# Altium footprint library 排针-排母.PcbLib: 177 footprints (part 7 of 12)
Each footprint in its own frame and in the unit in brackets; x right, y up, seen from the top. Pads: shape width x height; smd on the part's side, far side on the other; paste and mask are expansions set on the pad; w line width, h text height; cw(c..) or ccw(c..) is an arc to the next point about the centre after c.
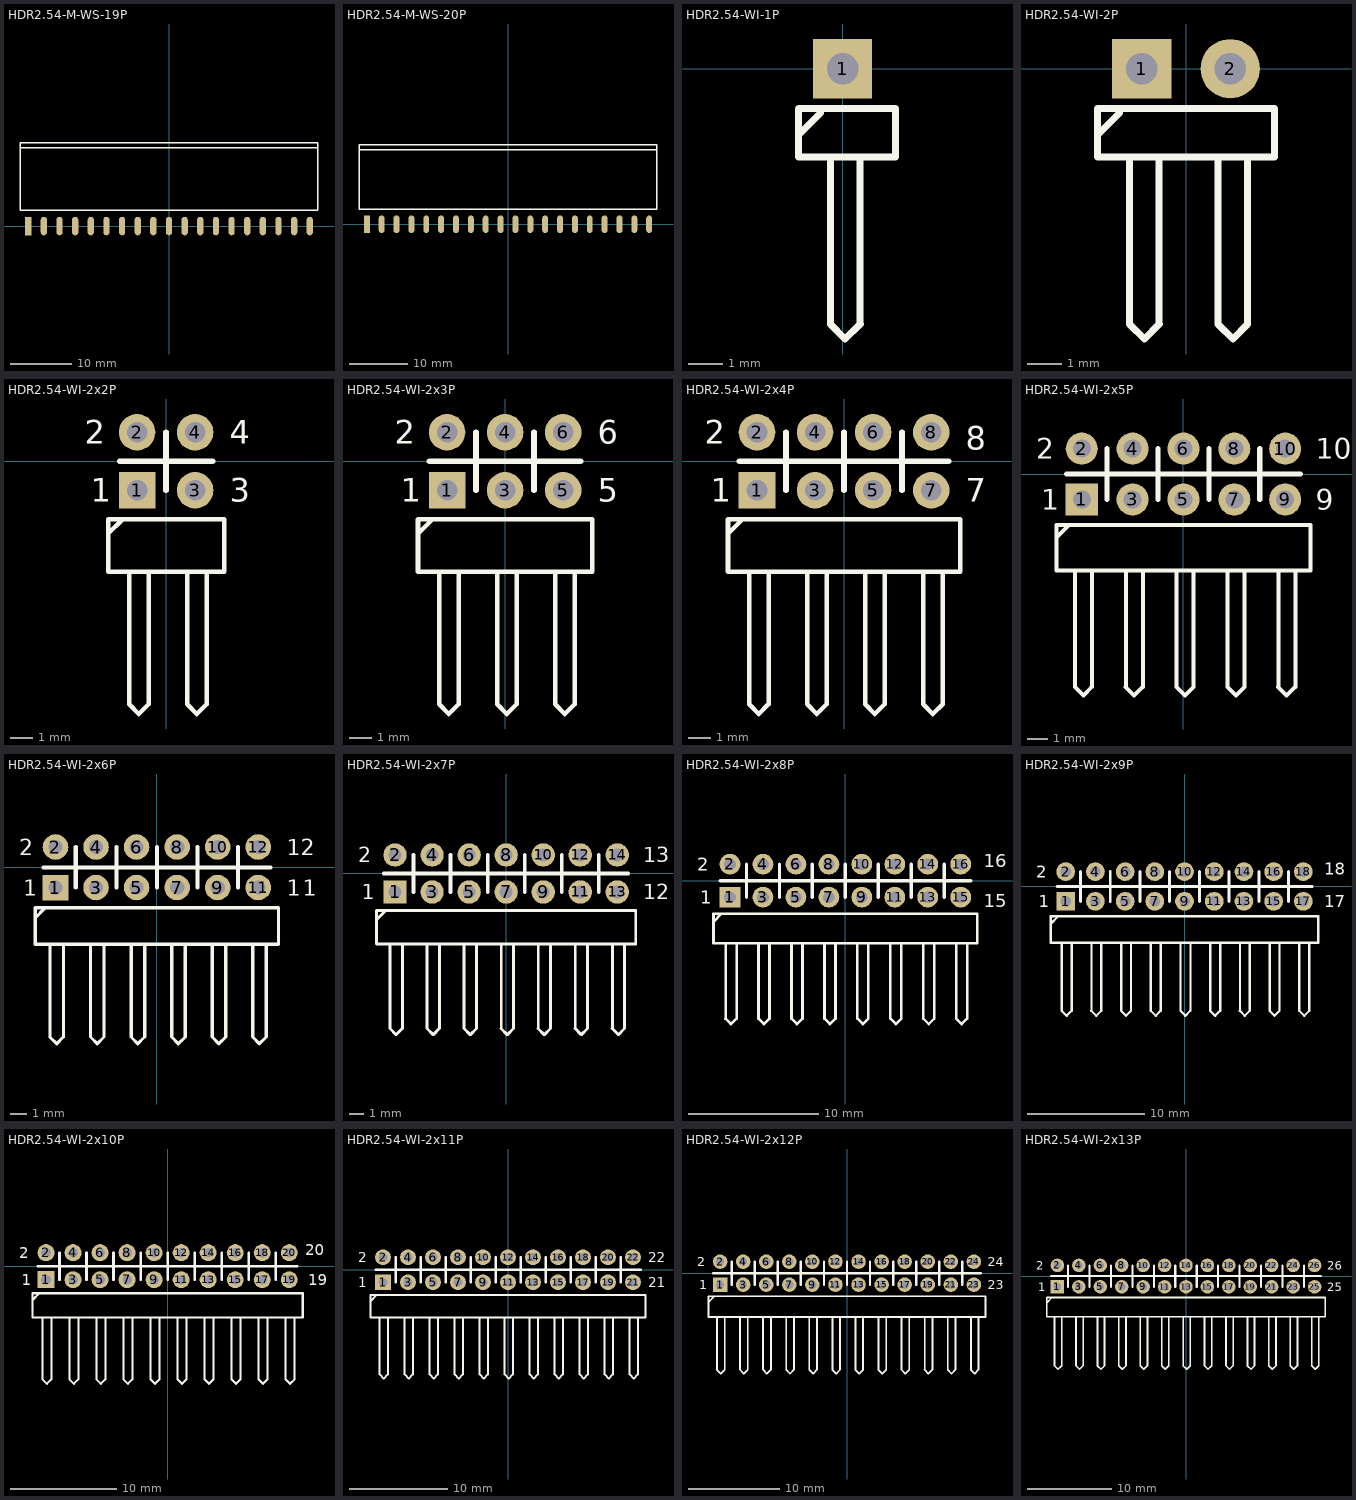
[diagram p6: the footprints below, top view; thin cyan lines are the x and y axes]

## HDR2.54-M-WS-19P [mm] "19P卧式贴片排母2.54"
pads (19):
  rect 1.02x3 smd: 1(-22.86,0)
  oval 1.02x3 smd: 2(-20.32,0) 3(-17.78,0) 4(-15.24,0) 5(-12.7,0) 6(-10.16,0) 7(-7.62,0) 8(-5.08,0) 9(-2.54,0) 10(0,0) 11(2.54,0) 12(5.08,0) 13(7.62,0) 14(10.16,0) 15(12.7,0) 16(15.24,0) 17(17.78,0) 18(20.32,0) 19(22.86,0)
Top Overlay:
  lines w0.254: -24.13,12.7 -21.59,12.7 -19.05,12.7 -16.51,12.7 -13.97,12.7 -11.43,12.7 -8.89,12.7 -6.35,12.7 -3.81,12.7 -1.27,12.7 1.27,12.7 3.81,12.7 6.35,12.7 8.89,12.7 11.43,12.7 13.97,12.7 16.51,12.7 19.05,12.7 21.59,12.7 24.13,12.7 ; -24.13,2.54 -24.13,13.54 -21.59,13.54 -19.05,13.54 -16.51,13.54 -13.97,13.54 -11.43,13.54 -8.89,13.54 -6.35,13.54 -3.81,13.54 -1.27,13.54 1.27,13.54 3.81,13.54 6.35,13.54 8.89,13.54 11.43,13.54 13.97,13.54 16.51,13.54 19.05,13.54 21.59,13.54 24.13,13.54 24.13,2.54 21.59,2.54 19.05,2.54 16.51,2.54 13.97,2.54 11.43,2.54 8.89,2.54 6.35,2.54 3.81,2.54 1.27,2.54 -1.27,2.54 -3.81,2.54 -6.35,2.54 -8.89,2.54 -11.43,2.54 -13.97,2.54 -16.51,2.54 -19.05,2.54 -21.59,2.54 -24.13,2.54
3D body: height 2.54, standoff -0.01, extent -8.89,-0.43 -6.35,13.54
3D body: height 2.54, standoff -0.01, extent -11.43,-0.43 -8.89,13.54
3D body: height 2.54, standoff -0.01, extent -13.97,-0.43 -11.43,13.54
3D body: height 2.54, standoff -0.01, extent -16.51,-0.43 -13.97,13.54
3D body: height 2.54, standoff -0.01, extent -19.05,-0.43 -16.51,13.54
3D body: height 2.54, standoff -0.01, extent -21.59,-0.43 -19.05,13.54
3D body: height 2.54, standoff -0.01, extent -24.13,-0.43 -21.59,13.54
3D body: height 2.54, standoff -0.01, extent -6.35,-0.43 -3.81,13.54
3D body: height 2.54, standoff -0.01, extent -3.81,-0.43 -1.27,13.54
3D body: height 2.54, standoff -0.01, extent -1.27,-0.43 1.27,13.54
3D body: height 2.54, standoff -0.01, extent 1.27,-0.43 3.81,13.54
3D body: height 2.54, standoff -0.01, extent 3.81,-0.43 6.35,13.54
3D body: height 2.54, standoff -0.01, extent 6.35,-0.43 8.89,13.54
3D body: height 2.54, standoff -0.01, extent 8.89,-0.43 11.43,13.54
3D body: height 2.54, standoff -0.01, extent 11.43,-0.43 13.97,13.54
3D body: height 2.54, standoff -0.01, extent 13.97,-0.43 16.51,13.54
3D body: height 2.54, standoff -0.01, extent 16.51,-0.43 19.05,13.54
3D body: height 2.54, standoff -0.01, extent 19.05,-0.43 21.59,13.54
3D body: height 2.54, standoff -0.01, extent 21.59,-0.43 24.13,13.54

## HDR2.54-M-WS-20P [mm] "20P卧式贴片排母2.54"
pads (20):
  rect 1.02x3 smd: 1(-24.13,0)
  oval 1.02x3 smd: 2(-21.59,0) 3(-19.05,0) 4(-16.51,0) 5(-13.97,0) 6(-11.43,0) 7(-8.89,0) 8(-6.35,0) 9(-3.81,0) 10(-1.27,0) 11(1.27,0) 12(3.81,0) 13(6.35,0) 14(8.89,0) 15(11.43,0) 16(13.97,0) 17(16.51,0) 18(19.05,0) 19(21.59,0) 20(24.13,0)
Top Overlay:
  lines w0.254: -25.4,12.7 -22.86,12.7 -20.32,12.7 -17.78,12.7 -15.24,12.7 -12.7,12.7 -10.16,12.7 -7.62,12.7 -5.08,12.7 -2.54,12.7 0,12.7 2.54,12.7 5.08,12.7 7.62,12.7 10.16,12.7 12.7,12.7 15.24,12.7 17.78,12.7 20.32,12.7 22.86,12.7 25.4,12.7 ; -25.4,2.54 -25.4,13.54 -22.86,13.54 -20.32,13.54 -17.78,13.54 -15.24,13.54 -12.7,13.54 -10.16,13.54 -7.62,13.54 -5.08,13.54 -2.54,13.54 0,13.54 2.54,13.54 5.08,13.54 7.62,13.54 10.16,13.54 12.7,13.54 15.24,13.54 17.78,13.54 20.32,13.54 22.86,13.54 25.4,13.54 25.4,2.54 22.86,2.54 20.32,2.54 17.78,2.54 15.24,2.54 12.7,2.54 10.16,2.54 7.62,2.54 5.08,2.54 2.54,2.54 0,2.54 -2.54,2.54 -5.08,2.54 -7.62,2.54 -10.16,2.54 -12.7,2.54 -15.24,2.54 -17.78,2.54 -20.32,2.54 -22.86,2.54 -25.4,2.54
3D body: height 2.54, standoff -0.01, extent 22.86,-0.43 25.4,13.54
3D body: height 2.54, standoff -0.01, extent -10.16,-0.43 -7.62,13.54
3D body: height 2.54, standoff -0.01, extent -12.7,-0.43 -10.16,13.54
3D body: height 2.54, standoff -0.01, extent -15.24,-0.43 -12.7,13.54
3D body: height 2.54, standoff -0.01, extent -17.78,-0.43 -15.24,13.54
3D body: height 2.54, standoff -0.01, extent -20.32,-0.43 -17.78,13.54
3D body: height 2.54, standoff -0.01, extent -22.86,-0.43 -20.32,13.54
3D body: height 2.54, standoff -0.01, extent -25.4,-0.43 -22.86,13.54
3D body: height 2.54, standoff -0.01, extent -7.62,-0.43 -5.08,13.54
3D body: height 2.54, standoff -0.01, extent -5.08,-0.43 -2.54,13.54
3D body: height 2.54, standoff -0.01, extent -2.54,-0.43 0,13.54
3D body: height 2.54, standoff -0.01, extent 0,-0.43 2.54,13.54
3D body: height 2.54, standoff -0.01, extent 2.54,-0.43 5.08,13.54
3D body: height 2.54, standoff -0.01, extent 5.08,-0.43 7.62,13.54
3D body: height 2.54, standoff -0.01, extent 7.62,-0.43 10.16,13.54
3D body: height 2.54, standoff -0.01, extent 10.16,-0.43 12.7,13.54
3D body: height 2.54, standoff -0.01, extent 12.7,-0.43 15.24,13.54
3D body: height 2.54, standoff -0.01, extent 15.24,-0.43 17.78,13.54
3D body: height 2.54, standoff -0.01, extent 17.78,-0.43 20.32,13.54
3D body: height 2.54, standoff -0.01, extent 20.32,-0.43 22.86,13.54

## HDR2.54-WI-1P [mm] "弯脚排针，1脚"
pads (1):
  rect 1.7x1.7 hole 0.9: 1(0,0)
Top Overlay:
  lines w0.2: -1.27,-1.905 -0.635,-1.27 ; -0.348,-2.54 -0.348,-7.332 0.075,-7.755 0.499,-7.332 0.508,-7.323 ; 0.499,-7.323 0.499,-2.54 ; -1.27,-2.54 -1.27,-1.143 0.508,-1.143 1.524,-1.143 1.524,-2.54 -1.27,-2.54
3D body: height 4.85, standoff -3, extent -1.27,-7.77 1.27,1.27

## HDR2.54-WI-2P [mm] "弯脚排针，2脚"
pads (2):
  rect 1.7x1.7 hole 0.9: 1(-1.27,0)
  round 1.7 hole 0.9: 2(1.27,0)
Top Overlay:
  lines w0.2: -2.54,-1.905 -1.905,-1.27 ; -1.618,-2.54 -1.618,-7.332 -1.195,-7.755 -0.771,-7.332 -0.762,-7.323 ; -0.771,-7.323 -0.771,-2.54 ; 0.922,-2.54 0.922,-7.332 1.345,-7.755 1.769,-7.332 ; 1.769,-7.323 1.769,-2.54 ; -2.54,-2.54 -2.54,-1.143 -0.762,-1.143 2.54,-1.143 2.54,-2.54 -2.54,-2.54
3D body: height 4.85, standoff -3, extent 0,-7.77 2.54,1.27
3D body: height 4.85, standoff -3, extent -2.54,-7.77 0,1.27

## HDR2.54-WI-2x2P [mm] "双排弯脚排针，2x2脚"
pads (4):
  rect 1.6x1.6 hole 0.9: 1(-1.27,-1.27)
  round 1.6 hole 0.9: 2(-1.27,1.27) 3(1.27,-1.27) 4(1.27,1.27)
Top Overlay:
  lines w0.2: -2.54,-3.175 -1.905,-2.54 ; -1.618,-10.634 -1.195,-11.057 -0.771,-10.634 -0.762,-10.625 -0.762,-4.826 ; -1.609,-10.634 -1.609,-4.826 ; 0.922,-10.634 1.345,-11.057 1.769,-10.634 ; 0.931,-10.634 0.931,-4.826 ; 1.778,-10.634 1.778,-4.826 ; -2.54,-4.826 2.54,-4.826 2.54,-2.54 -2.54,-2.54 -2.54,-4.826
  lines w0.254: -2.032,0 2.032,0 ; 0,-1.27 0,1.27
  text "1" at -3.302,-1.778 h1.02
  text "2" at -3.556,0.762 h1.02
  text "4" at 2.794,0.762 h1.02
  text "3" at 2.794,-1.778 h1.02
Bottom Overlay:
  lines w0.254: -2.032,0 2.032,0 ; 0,-1.27 0,1.27
3D body: height 5.1, standoff -3, extent 0,-11.23 2.54,1.62
3D body: height 5.1, standoff -3, extent -2.54,-11.23 0,1.62

## HDR2.54-WI-2x3P [mm] "双排弯脚排针，3x2脚"
pads (6):
  rect 1.6x1.6 hole 0.9: 1(-2.54,-1.27)
  round 1.6 hole 0.9: 2(-2.54,1.27) 3(0,-1.27) 4(0,1.27) 5(2.54,-1.27) 6(2.54,1.27)
Top Overlay:
  lines w0.2: -3.81,-3.175 -3.175,-2.54 ; -2.888,-10.634 -2.465,-11.057 -2.041,-10.634 -2.032,-10.625 -2.032,-4.826 ; -2.879,-10.634 -2.879,-4.826 ; -0.348,-10.634 0.075,-11.057 0.499,-10.634 ; -0.339,-10.634 -0.339,-4.826 ; 0.508,-10.634 0.508,-4.826 ; 2.192,-10.634 2.615,-11.057 3.039,-10.634 ; 2.201,-10.634 2.201,-4.826 ; 3.048,-10.634 3.048,-4.826 ; -3.81,-4.826 -3.81,-2.54 3.81,-2.54 3.81,-4.826 -3.81,-4.826
  lines w0.254: -3.302,0 3.302,0 ; -1.27,-1.27 -1.27,1.27 ; 1.27,-1.27 1.27,1.27
  text "1" at -4.572,-1.778 h1.02
  text "2" at -4.826,0.762 h1.02
  text "5" at 4.064,-1.778 h1.02
  text "6" at 4.064,0.762 h1.02
Bottom Overlay:
  lines w0.254: -3.302,0 3.302,0 ; -1.27,-1.27 -1.27,1.27 ; 1.27,-1.27 1.27,1.27
3D body: height 5.1, standoff -3, extent 1.27,-11.23 3.81,1.62
3D body: height 5.1, standoff -3, extent -3.81,-11.23 -1.27,1.62
3D body: height 5.1, standoff -3, extent -1.27,-11.23 1.27,1.62

## HDR2.54-WI-2x4P [mm] "双排弯脚排针，4x2脚"
pads (8):
  rect 1.6x1.6 hole 0.9: 1(-3.81,-1.27)
  round 1.6 hole 0.9: 2(-3.81,1.27) 3(-1.27,-1.27) 4(-1.27,1.27) 5(1.27,-1.27) 6(1.27,1.27) 7(3.81,-1.27) 8(3.81,1.27)
Top Overlay:
  lines w0.2: -5.08,-3.175 -4.445,-2.54 ; -4.158,-10.634 -3.735,-11.057 -3.311,-10.634 -3.302,-10.625 -3.302,-4.826 ; -4.149,-10.634 -4.149,-4.826 ; -1.618,-10.634 -1.195,-11.057 -0.771,-10.634 ; -1.609,-10.634 -1.609,-4.826 ; -0.762,-10.634 -0.762,-4.826 ; 0.922,-10.634 1.345,-11.057 1.769,-10.634 ; 0.931,-10.634 0.931,-4.826 ; 1.778,-10.634 1.778,-4.826 ; 3.462,-10.634 3.885,-11.057 4.309,-10.634 ; 3.471,-10.634 3.471,-4.826 ; 4.318,-10.634 4.318,-4.826 ; -5.08,-4.826 5.08,-4.826 5.08,-2.54 -5.08,-2.54 -5.08,-4.826
  lines w0.254: -4.572,0 4.572,0 ; -2.54,-1.27 -2.54,1.27 ; 0,-1.27 0,1.27 ; 2.54,-1.27 2.54,1.27
  text "7" at 5.334,-1.778 h1.02
  text "2" at -6.096,0.762 h1.02
  text "1" at -5.842,-1.778 h1.02
  text "8" at 5.334,0.508 h1.02
Bottom Overlay:
  lines w0.254: -4.572,0 4.572,0 ; -2.54,-1.27 -2.54,1.27 ; 0,-1.27 0,1.27 ; 2.54,-1.27 2.54,1.27
3D body: height 5.1, standoff -3, extent 0,-11.23 2.54,1.62
3D body: height 5.1, standoff -3, extent 2.54,-11.23 5.08,1.62
3D body: height 5.1, standoff -3, extent -5.08,-11.23 -2.54,1.62
3D body: height 5.1, standoff -3, extent -2.54,-11.23 0,1.62

## HDR2.54-WI-2x5P [mm] "双排弯脚排针，5x2脚"
pads (10):
  rect 1.6x1.6 hole 0.9: 1(-5.08,-1.27)
  round 1.6 hole 0.9: 2(-5.08,1.27) 3(-2.54,-1.27) 4(-2.54,1.27) 5(0,-1.27) 6(0,1.27) 7(2.54,-1.27) 8(2.54,1.27) 9(5.08,-1.27) 10(5.08,1.27)
Top Overlay:
  lines w0.2: -6.35,-3.175 -5.715,-2.54 ; -5.428,-10.634 -5.005,-11.057 -4.581,-10.634 -4.572,-10.625 -4.572,-4.826 ; -5.419,-10.634 -5.419,-4.826 ; -2.888,-10.634 -2.465,-11.057 -2.041,-10.634 ; -2.879,-10.634 -2.879,-4.826 ; -2.032,-10.634 -2.032,-4.826 ; -0.348,-10.634 0.075,-11.057 0.499,-10.634 ; -0.339,-10.634 -0.339,-4.826 ; 0.508,-10.634 0.508,-4.826 ; 2.192,-10.634 2.615,-11.057 3.039,-10.634 ; 2.201,-10.634 2.201,-4.826 ; 3.048,-10.634 3.048,-4.826 ; 4.732,-10.634 5.155,-11.057 5.579,-10.634 ; 4.741,-10.634 4.741,-4.826 ; 5.588,-10.634 5.588,-4.826 ; -6.35,-4.826 -6.35,-2.54 6.35,-2.54 6.35,-4.826 -6.35,-4.826
  lines w0.254: -5.842,0 5.842,0 ; -3.81,-1.27 -3.81,1.27 ; -1.27,-1.27 -1.27,1.27 ; 1.27,-1.27 1.27,1.27 ; 3.81,-1.27 3.81,1.27
  text "10" at 6.604,0.762 h1.02
  text "9" at 6.604,-1.778 h1.02
  text "1" at -7.112,-1.778 h1.02
  text "2" at -7.366,0.762 h1.02
Bottom Overlay:
  lines w0.254: -5.842,0 5.842,0 ; -3.81,-1.27 -3.81,1.27 ; -1.27,-1.27 -1.27,1.27 ; 1.27,-1.27 1.27,1.27 ; 3.81,-1.27 3.81,1.27
3D body: height 5.1, standoff -3, extent -3.81,-11.23 -1.27,1.62
3D body: height 5.1, standoff -3, extent -6.35,-11.23 -3.81,1.62
3D body: height 5.1, standoff -3, extent 1.27,-11.23 3.81,1.62
3D body: height 5.1, standoff -3, extent -1.27,-11.23 1.27,1.62
3D body: height 5.1, standoff -3, extent 3.81,-11.23 6.35,1.62

## HDR2.54-WI-2x6P [mm] "双排弯脚排针，6x2脚"
pads (12):
  rect 1.6x1.6 hole 0.9: 1(-6.35,-1.27)
  round 1.6 hole 0.9: 2(-6.35,1.27) 3(-3.81,-1.27) 4(-3.81,1.27) 5(-1.27,-1.27) 6(-1.27,1.27) 7(1.27,-1.27) 8(1.27,1.27) 9(3.81,-1.27) 10(3.81,1.27) 11(6.35,-1.27) 12(6.35,1.27)
Top Overlay:
  lines w0.2: -7.62,-3.175 -6.985,-2.54 ; -6.698,-10.634 -6.275,-11.057 -5.851,-10.634 -5.842,-10.625 -5.842,-4.826 ; -6.689,-10.634 -6.689,-4.826 ; -4.158,-10.634 -3.735,-11.057 -3.311,-10.634 ; -4.149,-10.634 -4.149,-4.826 ; -3.302,-10.634 -3.302,-4.826 ; -1.618,-10.634 -1.195,-11.057 -0.771,-10.634 ; -1.609,-10.634 -1.609,-4.826 ; -0.762,-10.634 -0.762,-4.826 ; 0.922,-10.634 1.345,-11.057 1.769,-10.634 ; 0.931,-10.634 0.931,-4.826 ; 1.778,-10.634 1.778,-4.826 ; 3.462,-10.634 3.885,-11.057 4.309,-10.634 ; 3.471,-10.634 3.471,-4.826 ; 4.318,-10.634 4.318,-4.826 ; 6.002,-10.634 6.425,-11.057 6.849,-10.634 ; 6.011,-10.634 6.011,-4.826 ; 6.858,-10.634 6.858,-4.826 ; -7.62,-4.826 7.62,-4.826 7.62,-2.54 -7.62,-2.54 -7.62,-4.826
  lines w0.254: -7.112,0 7.112,0 ; -5.08,-1.27 -5.08,1.27 ; -2.54,-1.27 -2.54,1.27 ; 0,-1.27 0,1.27 ; 2.54,-1.27 2.54,1.27 ; 5.08,-1.27 5.08,1.27
  text "12" at 8.128,0.762 h1.02
  text "1" at 9.144,-1.778 h1.02
  text "1" at 8.128,-1.778 h1.02
  text "1" at -8.382,-1.778 h1.02
  text "2" at -8.636,0.762 h1.02
Bottom Overlay:
  lines w0.254: -7.112,0 7.112,0 ; -5.08,-1.27 -5.08,1.27 ; -2.54,-1.27 -2.54,1.27 ; 0,-1.27 0,1.27 ; 2.54,-1.27 2.54,1.27 ; 5.08,-1.27 5.08,1.27
3D body: height 5.1, standoff -3, extent 2.54,-11.23 5.08,1.62
3D body: height 5.1, standoff -3, extent -2.54,-11.23 0,1.62
3D body: height 5.1, standoff -3, extent 0,-11.23 2.54,1.62
3D body: height 5.1, standoff -3, extent -7.62,-11.23 -5.08,1.62
3D body: height 5.1, standoff -3, extent -5.08,-11.23 -2.54,1.62
3D body: height 5.1, standoff -3, extent 5.08,-11.23 7.62,1.62

## HDR2.54-WI-2x7P [mm] "双排弯脚排针，7x2脚"
pads (14):
  rect 1.6x1.6 hole 0.9: 1(-7.62,-1.27)
  round 1.6 hole 0.9: 2(-7.62,1.27) 3(-5.08,-1.27) 4(-5.08,1.27) 5(-2.54,-1.27) 6(-2.54,1.27) 7(0,-1.27) 8(0,1.27) 9(2.54,-1.27) 10(2.54,1.27) 11(5.08,-1.27) 12(5.08,1.27) 13(7.62,-1.27) 14(7.62,1.27)
Top Overlay:
  lines w0.2: -8.89,-3.175 -8.255,-2.54 ; -7.968,-10.634 -7.545,-11.057 -7.121,-10.634 -7.112,-10.625 -7.112,-4.826 ; -7.959,-10.634 -7.959,-4.826 ; -5.428,-10.634 -5.005,-11.057 -4.581,-10.634 ; -5.419,-10.634 -5.419,-4.826 ; -4.572,-10.634 -4.572,-4.826 ; -2.888,-10.634 -2.465,-11.057 -2.041,-10.634 ; -2.879,-10.634 -2.879,-4.826 ; -2.032,-10.634 -2.032,-4.826 ; -0.348,-10.634 0.075,-11.057 0.499,-10.634 ; -0.339,-10.634 -0.339,-4.826 ; 0.508,-10.634 0.508,-4.826 ; 2.192,-10.634 2.615,-11.057 3.039,-10.634 ; 2.201,-10.634 2.201,-4.826 ; 3.048,-10.634 3.048,-4.826 ; 4.732,-10.634 5.155,-11.057 5.579,-10.634 ; 4.741,-10.634 4.741,-4.826 ; 5.588,-10.634 5.588,-4.826 ; 7.272,-10.634 7.695,-11.057 8.119,-10.634 ; 7.281,-10.634 7.281,-4.826 ; 8.128,-10.634 8.128,-4.826 ; -8.89,-4.826 8.89,-4.826 8.89,-2.54 -8.89,-2.54 -8.89,-4.826
  lines w0.254: -8.382,0 8.382,0 ; -6.35,-1.27 -6.35,1.27 ; -3.81,-1.27 -3.81,1.27 ; -1.27,-1.27 -1.27,1.27 ; 1.27,-1.27 1.27,1.27 ; 3.81,-1.27 3.81,1.27 ; 6.35,-1.27 6.35,1.27
  text "12" at 9.398,-1.778 h1.02
  text "13" at 9.398,0.762 h1.02
  text "1" at -9.906,-1.778 h1.02
  text "2" at -10.16,0.762 h1.02
Bottom Overlay:
  lines w0.254: -8.382,0 8.382,0 ; -6.35,-1.27 -6.35,1.27 ; -3.81,-1.27 -3.81,1.27 ; -1.27,-1.27 -1.27,1.27 ; 1.27,-1.27 1.27,1.27 ; 3.81,-1.27 3.81,1.27 ; 6.35,-1.27 6.35,1.27
3D body: height 5.1, standoff -3, extent 1.27,-11.23 3.81,1.62
3D body: height 5.1, standoff -3, extent -3.81,-11.23 -1.27,1.62
3D body: height 5.1, standoff -3, extent -1.27,-11.23 1.27,1.62
3D body: height 5.1, standoff -3, extent -8.89,-11.23 -6.35,1.62
3D body: height 5.1, standoff -3, extent -6.35,-11.23 -3.81,1.62
3D body: height 5.1, standoff -3, extent 3.81,-11.23 6.35,1.62
3D body: height 5.1, standoff -3, extent 6.35,-11.23 8.89,1.62

## HDR2.54-WI-2x8P [mm] "双排弯脚排针，8x2脚"
pads (16):
  rect 1.6x1.6 hole 0.9: 1(-8.89,-1.27)
  round 1.6 hole 0.9: 2(-8.89,1.27) 3(-6.35,-1.27) 4(-6.35,1.27) 5(-3.81,-1.27) 6(-3.81,1.27) 7(-1.27,-1.27) 8(-1.27,1.27) 9(1.27,-1.27) 10(1.27,1.27) 11(3.81,-1.27) 12(3.81,1.27) 13(6.35,-1.27) 14(6.35,1.27) 15(8.89,-1.27) 16(8.89,1.27)
Top Overlay:
  lines w0.2: -10.16,-3.175 -9.525,-2.54 ; -9.238,-10.634 -8.815,-11.057 -8.391,-10.634 -8.382,-10.625 -8.382,-4.826 ; -9.229,-10.634 -9.229,-4.826 ; -6.698,-10.634 -6.275,-11.057 -5.851,-10.634 ; -6.689,-10.634 -6.689,-4.826 ; -5.842,-10.634 -5.842,-4.826 ; -4.158,-10.634 -3.735,-11.057 -3.311,-10.634 ; -4.149,-10.634 -4.149,-4.826 ; -3.302,-10.634 -3.302,-4.826 ; -1.618,-10.634 -1.195,-11.057 -0.771,-10.634 ; -1.609,-10.634 -1.609,-4.826 ; -0.762,-10.634 -0.762,-4.826 ; 0.922,-10.634 1.345,-11.057 1.769,-10.634 ; 0.931,-10.634 0.931,-4.826 ; 1.778,-10.634 1.778,-4.826 ; 3.462,-10.634 3.885,-11.057 4.309,-10.634 ; 3.471,-10.634 3.471,-4.826 ; 4.318,-10.634 4.318,-4.826 ; 6.002,-10.634 6.425,-11.057 6.849,-10.634 ; 6.011,-10.634 6.011,-4.826 ; 6.858,-10.634 6.858,-4.826 ; 8.542,-10.634 8.965,-11.057 9.389,-10.634 ; 8.551,-10.634 8.551,-4.826 ; 9.398,-10.634 9.398,-4.826 ; -10.16,-4.826 -10.16,-2.54 10.16,-2.54 10.16,-4.826 -10.16,-4.826
  lines w0.254: -9.652,0 9.652,0 ; -7.62,-1.27 -7.62,1.27 ; -5.08,-1.27 -5.08,1.27 ; -2.54,-1.27 -2.54,1.27 ; 0,-1.27 0,1.27 ; 2.54,-1.27 2.54,1.27 ; 5.08,-1.27 5.08,1.27 ; 7.62,-1.27 7.62,1.27
  text "2" at -11.43,0.762 h1.02
  text "1" at -11.176,-1.778 h1.02
  text "16" at 10.668,1.016 h1.02
  text "15" at 10.668,-2.032 h1.02
Bottom Overlay:
  lines w0.254: -9.652,0 9.652,0 ; -7.62,-1.27 -7.62,1.27 ; -5.08,-1.27 -5.08,1.27 ; -2.54,-1.27 -2.54,1.27 ; 0,-1.27 0,1.27 ; 2.54,-1.27 2.54,1.27 ; 5.08,-1.27 5.08,1.27 ; 7.62,-1.27 7.62,1.27
3D body: height 5.1, standoff -3, extent 5.08,-11.23 7.62,1.62
3D body: height 5.1, standoff -3, extent 2.54,-11.23 5.08,1.62
3D body: height 5.1, standoff -3, extent 7.62,-11.23 10.16,1.62
3D body: height 5.1, standoff -3, extent -7.62,-11.23 -5.08,1.62
3D body: height 5.1, standoff -3, extent -10.16,-11.23 -7.62,1.62
3D body: height 5.1, standoff -3, extent -2.54,-11.23 0,1.62
3D body: height 5.1, standoff -3, extent -5.08,-11.23 -2.54,1.62
3D body: height 5.1, standoff -3, extent 0,-11.23 2.54,1.62

## HDR2.54-WI-2x9P [mm] "双排弯脚排针，9x2脚"
pads (18):
  rect 1.6x1.6 hole 0.9: 1(-10.16,-1.27)
  round 1.6 hole 0.9: 2(-10.16,1.27) 3(-7.62,-1.27) 4(-7.62,1.27) 5(-5.08,-1.27) 6(-5.08,1.27) 7(-2.54,-1.27) 8(-2.54,1.27) 9(0,-1.27) 10(0,1.27) 11(2.54,-1.27) 12(2.54,1.27) 13(5.08,-1.27) 14(5.08,1.27) 15(7.62,-1.27) 16(7.62,1.27) 17(10.16,-1.27) 18(10.16,1.27)
Top Overlay:
  lines w0.2: -11.43,-3.175 -10.795,-2.54 ; -10.508,-10.634 -10.085,-11.057 -9.661,-10.634 -9.652,-10.625 -9.652,-4.826 ; -10.499,-10.634 -10.499,-4.826 ; -7.968,-10.634 -7.545,-11.057 -7.121,-10.634 ; -7.959,-10.634 -7.959,-4.826 ; -7.112,-10.634 -7.112,-4.826 ; -5.428,-10.634 -5.005,-11.057 -4.581,-10.634 ; -5.419,-10.634 -5.419,-4.826 ; -4.572,-10.634 -4.572,-4.826 ; -2.888,-10.634 -2.465,-11.057 -2.041,-10.634 ; -2.879,-10.634 -2.879,-4.826 ; -2.032,-10.634 -2.032,-4.826 ; -0.348,-10.634 0.075,-11.057 0.499,-10.634 ; -0.339,-10.634 -0.339,-4.826 ; 0.508,-10.634 0.508,-4.826 ; 2.192,-10.634 2.615,-11.057 3.039,-10.634 ; 2.201,-10.634 2.201,-4.826 ; 3.048,-10.634 3.048,-4.826 ; 4.732,-10.634 5.155,-11.057 5.579,-10.634 ; 4.741,-10.634 4.741,-4.826 ; 5.588,-10.634 5.588,-4.826 ; 7.272,-10.634 7.695,-11.057 8.119,-10.634 ; 7.281,-10.634 7.281,-4.826 ; 8.128,-10.634 8.128,-4.826 ; 9.812,-10.634 10.235,-11.057 10.659,-10.634 ; 9.821,-10.634 9.821,-4.826 ; 10.668,-10.634 10.668,-4.826 ; -11.43,-4.826 -11.43,-2.54 11.43,-2.54 11.43,-4.826 -11.43,-4.826
  lines w0.254: -10.922,0 10.922,0 ; -8.89,-1.27 -8.89,1.27 ; -6.35,-1.27 -6.35,1.27 ; -3.81,-1.27 -3.81,1.27 ; -1.27,-1.27 -1.27,1.27 ; 1.27,-1.27 1.27,1.27 ; 3.81,-1.27 3.81,1.27 ; 6.35,-1.27 6.35,1.27 ; 8.89,-1.27 8.89,1.27
  text "2" at -12.7,0.762 h1.02
  text "1" at -12.446,-1.778 h1.02
  text "18" at 11.938,1.016 h1.02
  text "17" at 11.938,-1.778 h1.02
Bottom Overlay:
  lines w0.254: -10.922,0 10.922,0 ; -8.89,-1.27 -8.89,1.27 ; -6.35,-1.27 -6.35,1.27 ; -3.81,-1.27 -3.81,1.27 ; -1.27,-1.27 -1.27,1.27 ; 1.27,-1.27 1.27,1.27 ; 3.81,-1.27 3.81,1.27 ; 6.35,-1.27 6.35,1.27 ; 8.89,-1.27 8.89,1.27
3D body: height 5.1, standoff -3, extent -1.27,-11.23 1.27,1.62
3D body: height 5.1, standoff -3, extent -6.35,-11.23 -3.81,1.62
3D body: height 5.1, standoff -3, extent -3.81,-11.23 -1.27,1.62
3D body: height 5.1, standoff -3, extent -11.43,-11.23 -8.89,1.62
3D body: height 5.1, standoff -3, extent -8.89,-11.23 -6.35,1.62
3D body: height 5.1, standoff -3, extent 6.35,-11.23 8.89,1.62
3D body: height 5.1, standoff -3, extent 8.89,-11.23 11.43,1.62
3D body: height 5.1, standoff -3, extent 1.27,-11.23 3.81,1.62
3D body: height 5.1, standoff -3, extent 3.81,-11.23 6.35,1.62

## HDR2.54-WI-2x10P [mm]
pads (20):
  rect 1.6x1.6 hole 0.9: 1(-11.43,-1.27)
  round 1.6 hole 0.9: 2(-11.43,1.27) 3(-8.89,-1.27) 4(-8.89,1.27) 5(-6.35,-1.27) 6(-6.35,1.27) 7(-3.81,-1.27) 8(-3.81,1.27) 9(-1.27,-1.27) 10(-1.27,1.27) 11(1.27,-1.27) 12(1.27,1.27) 13(3.81,-1.27) 14(3.81,1.27) 15(6.35,-1.27) 16(6.35,1.27) 17(8.89,-1.27) 18(8.89,1.27) 19(11.43,-1.27) 20(11.43,1.27)
Top Overlay:
  lines w0.2: -12.7,-3.175 -12.065,-2.54 ; -11.778,-10.634 -11.355,-11.057 -10.931,-10.634 -10.922,-10.625 -10.922,-4.826 ; -11.769,-10.634 -11.769,-4.826 ; -9.238,-10.634 -8.815,-11.057 -8.391,-10.634 ; -9.229,-10.634 -9.229,-4.826 ; -8.382,-10.634 -8.382,-4.826 ; -6.698,-10.634 -6.275,-11.057 -5.851,-10.634 ; -6.689,-10.634 -6.689,-4.826 ; -5.842,-10.634 -5.842,-4.826 ; -4.158,-10.634 -3.735,-11.057 -3.311,-10.634 ; -4.149,-10.634 -4.149,-4.826 ; -3.302,-10.634 -3.302,-4.826 ; -1.618,-10.634 -1.195,-11.057 -0.771,-10.634 ; -1.609,-10.634 -1.609,-4.826 ; -0.762,-10.634 -0.762,-4.826 ; 0.922,-10.634 1.345,-11.057 1.769,-10.634 ; 0.931,-10.634 0.931,-4.826 ; 1.778,-10.634 1.778,-4.826 ; 3.462,-10.634 3.885,-11.057 4.309,-10.634 ; 3.471,-10.634 3.471,-4.826 ; 4.318,-10.634 4.318,-4.826 ; 6.002,-10.634 6.425,-11.057 6.849,-10.634 ; 6.011,-10.634 6.011,-4.826 ; 6.858,-10.634 6.858,-4.826 ; 8.542,-10.634 8.965,-11.057 9.389,-10.634 ; 8.551,-10.634 8.551,-4.826 ; 9.398,-10.634 9.398,-4.826 ; 11.082,-10.634 11.505,-11.057 11.929,-10.634 ; 11.091,-10.634 11.091,-4.826 ; 11.938,-10.634 11.938,-4.826 ; -12.7,-4.826 12.7,-4.826 12.7,-2.54 -12.7,-2.54 -12.7,-4.826
  lines w0.254: -12.192,0 12.192,0 ; -10.16,-1.27 -10.16,1.27 ; -7.62,-1.27 -7.62,1.27 ; -5.08,-1.27 -5.08,1.27 ; -2.54,-1.27 -2.54,1.27 ; 0,-1.27 0,1.27 ; 2.54,-1.27 2.54,1.27 ; 5.08,-1.27 5.08,1.27 ; 7.62,-1.27 7.62,1.27 ; 10.16,-1.27 10.16,1.27
  text "2" at -13.97,0.762 h1.02
  text "1" at -13.716,-1.778 h1.02
  text "20" at 12.954,1.016 h1.02
  text "19" at 13.208,-1.778 h1.02
Bottom Overlay:
  lines w0.254: -12.192,0 12.192,0 ; -10.16,-1.27 -10.16,1.27 ; -7.62,-1.27 -7.62,1.27 ; -5.08,-1.27 -5.08,1.27 ; -2.54,-1.27 -2.54,1.27 ; 0,-1.27 0,1.27 ; 2.54,-1.27 2.54,1.27 ; 5.08,-1.27 5.08,1.27 ; 7.62,-1.27 7.62,1.27 ; 10.16,-1.27 10.16,1.27
3D body: height 5.1, standoff -3, extent 2.54,-11.23 5.08,1.62
3D body: height 5.1, standoff -3, extent 0,-11.23 2.54,1.62
3D body: height 5.1, standoff -3, extent 7.62,-11.23 10.16,1.62
3D body: height 5.1, standoff -3, extent 5.08,-11.23 7.62,1.62
3D body: height 5.1, standoff -3, extent 10.16,-11.23 12.7,1.62
3D body: height 5.1, standoff -3, extent -10.16,-11.23 -7.62,1.62
3D body: height 5.1, standoff -3, extent -12.7,-11.23 -10.16,1.62
3D body: height 5.1, standoff -3, extent -5.08,-11.23 -2.54,1.62
3D body: height 5.1, standoff -3, extent -7.62,-11.23 -5.08,1.62
3D body: height 5.1, standoff -3, extent -2.54,-11.23 0,1.62

## HDR2.54-WI-2x11P [mm] "双排弯脚排针，11x2脚"
pads (22):
  rect 1.6x1.6 hole 0.9: 1(-12.7,-1.27)
  round 1.6 hole 0.9: 2(-12.7,1.27) 3(-10.16,-1.27) 4(-10.16,1.27) 5(-7.62,-1.27) 6(-7.62,1.27) 7(-5.08,-1.27) 8(-5.08,1.27) 9(-2.54,-1.27) 10(-2.54,1.27) 11(0,-1.27) 12(0,1.27) 13(2.54,-1.27) 14(2.54,1.27) 15(5.08,-1.27) 16(5.08,1.27) 17(7.62,-1.27) 18(7.62,1.27) 19(10.16,-1.27) 20(10.16,1.27) 21(12.7,-1.27) 22(12.7,1.27)
Top Overlay:
  lines w0.2: -13.97,-3.175 -13.335,-2.54 ; -13.048,-10.634 -12.625,-11.057 -12.201,-10.634 -12.192,-10.625 -12.192,-4.826 ; -13.039,-10.634 -13.039,-4.826 ; -10.508,-10.634 -10.085,-11.057 -9.661,-10.634 ; -10.499,-10.634 -10.499,-4.826 ; -9.652,-10.634 -9.652,-4.826 ; -7.968,-10.634 -7.545,-11.057 -7.121,-10.634 ; -7.959,-10.634 -7.959,-4.826 ; -7.112,-10.634 -7.112,-4.826 ; -5.428,-10.634 -5.005,-11.057 -4.581,-10.634 ; -5.419,-10.634 -5.419,-4.826 ; -4.572,-10.634 -4.572,-4.826 ; -2.888,-10.634 -2.465,-11.057 -2.041,-10.634 ; -2.879,-10.634 -2.879,-4.826 ; -2.032,-10.634 -2.032,-4.826 ; -0.348,-10.634 0.075,-11.057 0.499,-10.634 ; -0.339,-10.634 -0.339,-4.826 ; 0.508,-10.634 0.508,-4.826 ; 2.192,-10.634 2.615,-11.057 3.039,-10.634 ; 2.201,-10.634 2.201,-4.826 ; 3.048,-10.634 3.048,-4.826 ; 4.732,-10.634 5.155,-11.057 5.579,-10.634 ; 4.741,-10.634 4.741,-4.826 ; 5.588,-10.634 5.588,-4.826 ; 7.272,-10.634 7.695,-11.057 8.119,-10.634 ; 7.281,-10.634 7.281,-4.826 ; 8.128,-10.634 8.128,-4.826 ; 9.812,-10.634 10.235,-11.057 10.659,-10.634 ; 9.821,-10.634 9.821,-4.826 ; 10.668,-10.634 10.668,-4.826 ; 12.352,-10.634 12.775,-11.057 13.199,-10.634 ; 12.361,-10.634 12.361,-4.826 ; 13.208,-10.634 13.208,-4.826 ; -13.97,-4.826 -13.97,-2.54 13.97,-2.54 13.97,-4.826 -13.97,-4.826
  lines w0.254: -13.462,0 13.462,0 ; -11.43,-1.27 -11.43,1.27 ; -8.89,-1.27 -8.89,1.27 ; -6.35,-1.27 -6.35,1.27 ; -3.81,-1.27 -3.81,1.27 ; -1.27,-1.27 -1.27,1.27 ; 1.27,-1.27 1.27,1.27 ; 3.81,-1.27 3.81,1.27 ; 6.35,-1.27 6.35,1.27 ; 8.89,-1.27 8.89,1.27 ; 11.43,-1.27 11.43,1.27
  text "1" at -15.24,-1.778 h1.02
  text "2" at -15.24,0.762 h1.02
  text "21" at 14.224,-1.778 h1.02
  text "22" at 14.224,0.762 h1.02
Bottom Overlay:
  lines w0.254: -13.462,0 13.716,0 ; -11.43,-1.27 -11.43,1.27 ; -8.89,-1.27 -8.89,1.27 ; -6.35,-1.27 -6.35,1.27 ; -3.81,-1.27 -3.81,1.27 ; -1.27,-1.27 -1.27,1.27 ; 1.27,-1.27 1.27,1.27 ; 3.81,-1.27 3.81,1.27 ; 6.35,-1.27 6.35,1.27 ; 8.89,-1.27 8.89,1.27 ; 11.43,-1.27 11.43,1.27
3D body: height 5.1, standoff -3, extent -3.81,-11.23 -1.27,1.62
3D body: height 5.1, standoff -3, extent -8.89,-11.23 -6.35,1.62
3D body: height 5.1, standoff -3, extent -6.35,-11.23 -3.81,1.62
3D body: height 5.1, standoff -3, extent -13.97,-11.23 -11.43,1.62
3D body: height 5.1, standoff -3, extent -11.43,-11.23 -8.89,1.62
3D body: height 5.1, standoff -3, extent 8.89,-11.23 11.43,1.62
3D body: height 5.1, standoff -3, extent 3.81,-11.23 6.35,1.62
3D body: height 5.1, standoff -3, extent 6.35,-11.23 8.89,1.62
3D body: height 5.1, standoff -3, extent -1.27,-11.23 1.27,1.62
3D body: height 5.1, standoff -3, extent 1.27,-11.23 3.81,1.62
3D body: height 5.1, standoff -3, extent 11.43,-11.23 13.97,1.62

## HDR2.54-WI-2x12P [mm] "双排弯脚排针，12x2脚"
pads (24):
  rect 1.6x1.6 hole 0.9: 1(-13.97,-1.27)
  round 1.6 hole 0.9: 2(-13.97,1.27) 3(-11.43,-1.27) 4(-11.43,1.27) 5(-8.89,-1.27) 6(-8.89,1.27) 7(-6.35,-1.27) 8(-6.35,1.27) 9(-3.81,-1.27) 10(-3.81,1.27) 11(-1.27,-1.27) 12(-1.27,1.27) 13(1.27,-1.27) 14(1.27,1.27) 15(3.81,-1.27) 16(3.81,1.27) 17(6.35,-1.27) 18(6.35,1.27) 19(8.89,-1.27) 20(8.89,1.27) 21(11.43,-1.27) 22(11.43,1.27) 23(13.97,-1.27) 24(13.97,1.27)
Top Overlay:
  lines w0.2: -15.24,-3.175 -14.605,-2.54 ; -14.318,-10.634 -13.895,-11.057 -13.471,-10.634 -13.462,-10.625 -13.462,-4.826 ; -14.309,-10.634 -14.309,-4.826 ; -11.778,-10.634 -11.355,-11.057 -10.931,-10.634 ; -11.769,-10.634 -11.769,-4.826 ; -10.922,-10.634 -10.922,-4.826 ; -9.238,-10.634 -8.815,-11.057 -8.391,-10.634 ; -9.229,-10.634 -9.229,-4.826 ; -8.382,-10.634 -8.382,-4.826 ; -6.698,-10.634 -6.275,-11.057 -5.851,-10.634 ; -6.689,-10.634 -6.689,-4.826 ; -5.842,-10.634 -5.842,-4.826 ; -4.158,-10.634 -3.735,-11.057 -3.311,-10.634 ; -4.149,-10.634 -4.149,-4.826 ; -3.302,-10.634 -3.302,-4.826 ; -1.618,-10.634 -1.195,-11.057 -0.771,-10.634 ; -1.609,-10.634 -1.609,-4.826 ; -0.762,-10.634 -0.762,-4.826 ; 0.922,-10.634 1.345,-11.057 1.769,-10.634 ; 0.931,-10.634 0.931,-4.826 ; 1.778,-10.634 1.778,-4.826 ; 3.462,-10.634 3.885,-11.057 4.309,-10.634 ; 3.471,-10.634 3.471,-4.826 ; 4.318,-10.634 4.318,-4.826 ; 6.002,-10.634 6.425,-11.057 6.849,-10.634 ; 6.011,-10.634 6.011,-4.826 ; 6.858,-10.634 6.858,-4.826 ; 8.542,-10.634 8.965,-11.057 9.389,-10.634 ; 8.551,-10.634 8.551,-4.826 ; 9.398,-10.634 9.398,-4.826 ; 11.082,-10.634 11.505,-11.057 11.929,-10.634 ; 11.091,-10.634 11.091,-4.826 ; 11.938,-10.634 11.938,-4.826 ; 13.622,-10.634 14.045,-11.057 14.469,-10.634 ; 13.631,-10.634 13.631,-4.826 ; 14.478,-10.634 14.478,-4.826 ; -15.24,-4.826 -15.24,-2.54 15.24,-2.54 15.24,-4.826 -15.24,-4.826
  lines w0.254: -14.732,0 14.732,0 ; -12.7,-1.27 -12.7,1.27 ; -10.16,-1.27 -10.16,1.27 ; -7.62,-1.27 -7.62,1.27 ; -5.08,-1.27 -5.08,1.27 ; -2.54,-1.27 -2.54,1.27 ; 0,-1.27 0,1.27 ; 2.54,-1.27 2.54,1.27 ; 5.08,-1.27 5.08,1.27 ; 7.62,-1.27 7.62,1.27 ; 10.16,-1.27 10.16,1.27 ; 12.7,-1.27 12.7,1.27
  text "1" at -16.256,-1.778 h1.02
  text "2" at -16.51,0.762 h1.02
  text "23" at 15.494,-1.778 h1.02
  text "24" at 15.494,0.762 h1.02
Bottom Overlay:
  lines w0.254: -14.732,0 14.732,0 ; -12.7,-1.27 -12.7,1.27 ; -10.16,-1.27 -10.16,1.27 ; -7.62,-1.27 -7.62,1.27 ; -5.08,-1.27 -5.08,1.27 ; -2.54,-1.27 -2.54,1.27 ; 0,-1.27 0,1.27 ; 2.54,-1.27 2.54,1.27 ; 5.08,-1.27 5.08,1.27 ; 7.62,-1.27 7.62,1.27 ; 10.16,-1.27 10.16,1.27 ; 12.7,-1.27 12.7,1.27
3D body: height 5.1, standoff -3, extent 12.7,-11.23 15.24,1.62
3D body: height 5.1, standoff -3, extent 10.16,-11.23 12.7,1.62
3D body: height 5.1, standoff -3, extent 0,-11.23 2.54,1.62
3D body: height 5.1, standoff -3, extent -2.54,-11.23 0,1.62
3D body: height 5.1, standoff -3, extent 5.08,-11.23 7.62,1.62
3D body: height 5.1, standoff -3, extent 2.54,-11.23 5.08,1.62
3D body: height 5.1, standoff -3, extent 7.62,-11.23 10.16,1.62
3D body: height 5.1, standoff -3, extent -12.7,-11.23 -10.16,1.62
3D body: height 5.1, standoff -3, extent -15.24,-11.23 -12.7,1.62
3D body: height 5.1, standoff -3, extent -7.62,-11.23 -5.08,1.62
3D body: height 5.1, standoff -3, extent -10.16,-11.23 -7.62,1.62
3D body: height 5.1, standoff -3, extent -5.08,-11.23 -2.54,1.62

## HDR2.54-WI-2x13P [mm] "双排弯脚排针，13x2脚"
pads (26):
  rect 1.6x1.6 hole 0.9: 1(-15.24,-1.27)
  round 1.6 hole 0.9: 2(-15.24,1.27) 3(-12.7,-1.27) 4(-12.7,1.27) 5(-10.16,-1.27) 6(-10.16,1.27) 7(-7.62,-1.27) 8(-7.62,1.27) 9(-5.08,-1.27) 10(-5.08,1.27) 11(-2.54,-1.27) 12(-2.54,1.27) 13(0,-1.27) 14(0,1.27) 15(2.54,-1.27) 16(2.54,1.27) 17(5.08,-1.27) 18(5.08,1.27) 19(7.62,-1.27) 20(7.62,1.27) 21(10.16,-1.27) 22(10.16,1.27) 23(12.7,-1.27) 24(12.7,1.27) 25(15.24,-1.27) 26(15.24,1.27)
Top Overlay:
  lines w0.2: -16.51,-3.175 -15.875,-2.54 ; -15.588,-10.634 -15.165,-11.057 -14.741,-10.634 -14.732,-10.625 -14.732,-4.826 ; -15.579,-10.634 -15.579,-4.826 ; -13.048,-10.634 -12.625,-11.057 -12.201,-10.634 ; -13.039,-10.634 -13.039,-4.826 ; -12.192,-10.634 -12.192,-4.826 ; -10.508,-10.634 -10.085,-11.057 -9.661,-10.634 ; -10.499,-10.634 -10.499,-4.826 ; -9.652,-10.634 -9.652,-4.826 ; -7.968,-10.634 -7.545,-11.057 -7.121,-10.634 ; -7.959,-10.634 -7.959,-4.826 ; -7.112,-10.634 -7.112,-4.826 ; -5.428,-10.634 -5.005,-11.057 -4.581,-10.634 ; -5.419,-10.634 -5.419,-4.826 ; -4.572,-10.634 -4.572,-4.826 ; -2.888,-10.634 -2.465,-11.057 -2.041,-10.634 ; -2.879,-10.634 -2.879,-4.826 ; -2.032,-10.634 -2.032,-4.826 ; -0.348,-10.634 0.075,-11.057 0.499,-10.634 ; -0.339,-10.634 -0.339,-4.826 ; 0.508,-10.634 0.508,-4.826 ; 2.192,-10.634 2.615,-11.057 3.039,-10.634 ; 2.201,-10.634 2.201,-4.826 ; 3.048,-10.634 3.048,-4.826 ; 4.732,-10.634 5.155,-11.057 5.579,-10.634 ; 4.741,-10.634 4.741,-4.826 ; 5.588,-10.634 5.588,-4.826 ; 7.272,-10.634 7.695,-11.057 8.119,-10.634 ; 7.281,-10.634 7.281,-4.826 ; 8.128,-10.634 8.128,-4.826 ; 9.812,-10.634 10.235,-11.057 10.659,-10.634 ; 9.821,-10.634 9.821,-4.826 ; 10.668,-10.634 10.668,-4.826 ; 12.352,-10.634 12.775,-11.057 13.199,-10.634 ; 12.361,-10.634 12.361,-4.826 ; 13.208,-10.634 13.208,-4.826 ; 14.892,-10.634 15.315,-11.057 15.739,-10.634 ; 14.901,-10.634 14.901,-4.826 ; 15.748,-10.634 15.748,-4.826 ; -16.51,-4.826 16.51,-4.826 16.51,-2.54 -16.51,-2.54 -16.51,-4.826
  lines w0.254: -16.002,0 16.002,0 ; -13.97,-1.27 -13.97,1.27 ; -11.43,-1.27 -11.43,1.27 ; -8.89,-1.27 -8.89,1.27 ; -6.35,-1.27 -6.35,1.27 ; -3.81,-1.27 -3.81,1.27 ; -1.27,-1.27 -1.27,1.27 ; 1.27,-1.27 1.27,1.27 ; 3.81,-1.27 3.81,1.27 ; 6.35,-1.27 6.35,1.27 ; 8.89,-1.27 8.89,1.27 ; 11.43,-1.27 11.43,1.27 ; 13.97,-1.27 13.97,1.27
  text "26" at 16.764,0.762 h1.02
  text "25" at 16.764,-1.778 h1.02
  text "1" at -17.526,-1.778 h1.02
  text "2" at -17.78,0.762 h1.02
Bottom Overlay:
  lines w0.254: -16.002,0 16.002,0 ; -13.97,-1.27 -13.97,1.27 ; -11.43,-1.27 -11.43,1.27 ; -8.89,-1.27 -8.89,1.27 ; -6.35,-1.27 -6.35,1.27 ; -3.81,-1.27 -3.81,1.27 ; -1.27,-1.27 -1.27,1.27 ; 1.27,-1.27 1.27,1.27 ; 3.81,-1.27 3.81,1.27 ; 6.35,-1.27 6.35,1.27 ; 8.89,-1.27 8.89,1.27 ; 11.43,-1.27 11.43,1.27 ; 13.97,-1.27 13.97,1.27
3D body: height 5.1, standoff -3, extent -6.35,-11.23 -3.81,1.62
3D body: height 5.1, standoff -3, extent -11.43,-11.23 -8.89,1.62
3D body: height 5.1, standoff -3, extent -8.89,-11.23 -6.35,1.62
3D body: height 5.1, standoff -3, extent -16.51,-11.23 -13.97,1.62
3D body: height 5.1, standoff -3, extent -13.97,-11.23 -11.43,1.62
3D body: height 5.1, standoff -3, extent 6.35,-11.23 8.89,1.62
3D body: height 5.1, standoff -3, extent 1.27,-11.23 3.81,1.62
3D body: height 5.1, standoff -3, extent 3.81,-11.23 6.35,1.62
3D body: height 5.1, standoff -3, extent -3.81,-11.23 -1.27,1.62
3D body: height 5.1, standoff -3, extent -1.27,-11.23 1.27,1.62
3D body: height 5.1, standoff -3, extent 13.97,-11.23 16.51,1.62
3D body: height 5.1, standoff -3, extent 8.89,-11.23 11.43,1.62
3D body: height 5.1, standoff -3, extent 11.43,-11.23 13.97,1.62